# Altium schematic symbol library Schlib_TE_Connectivity.SchLib: 23 symbols
Pins are listed as number, name and electrical type; pins without a type are passive.

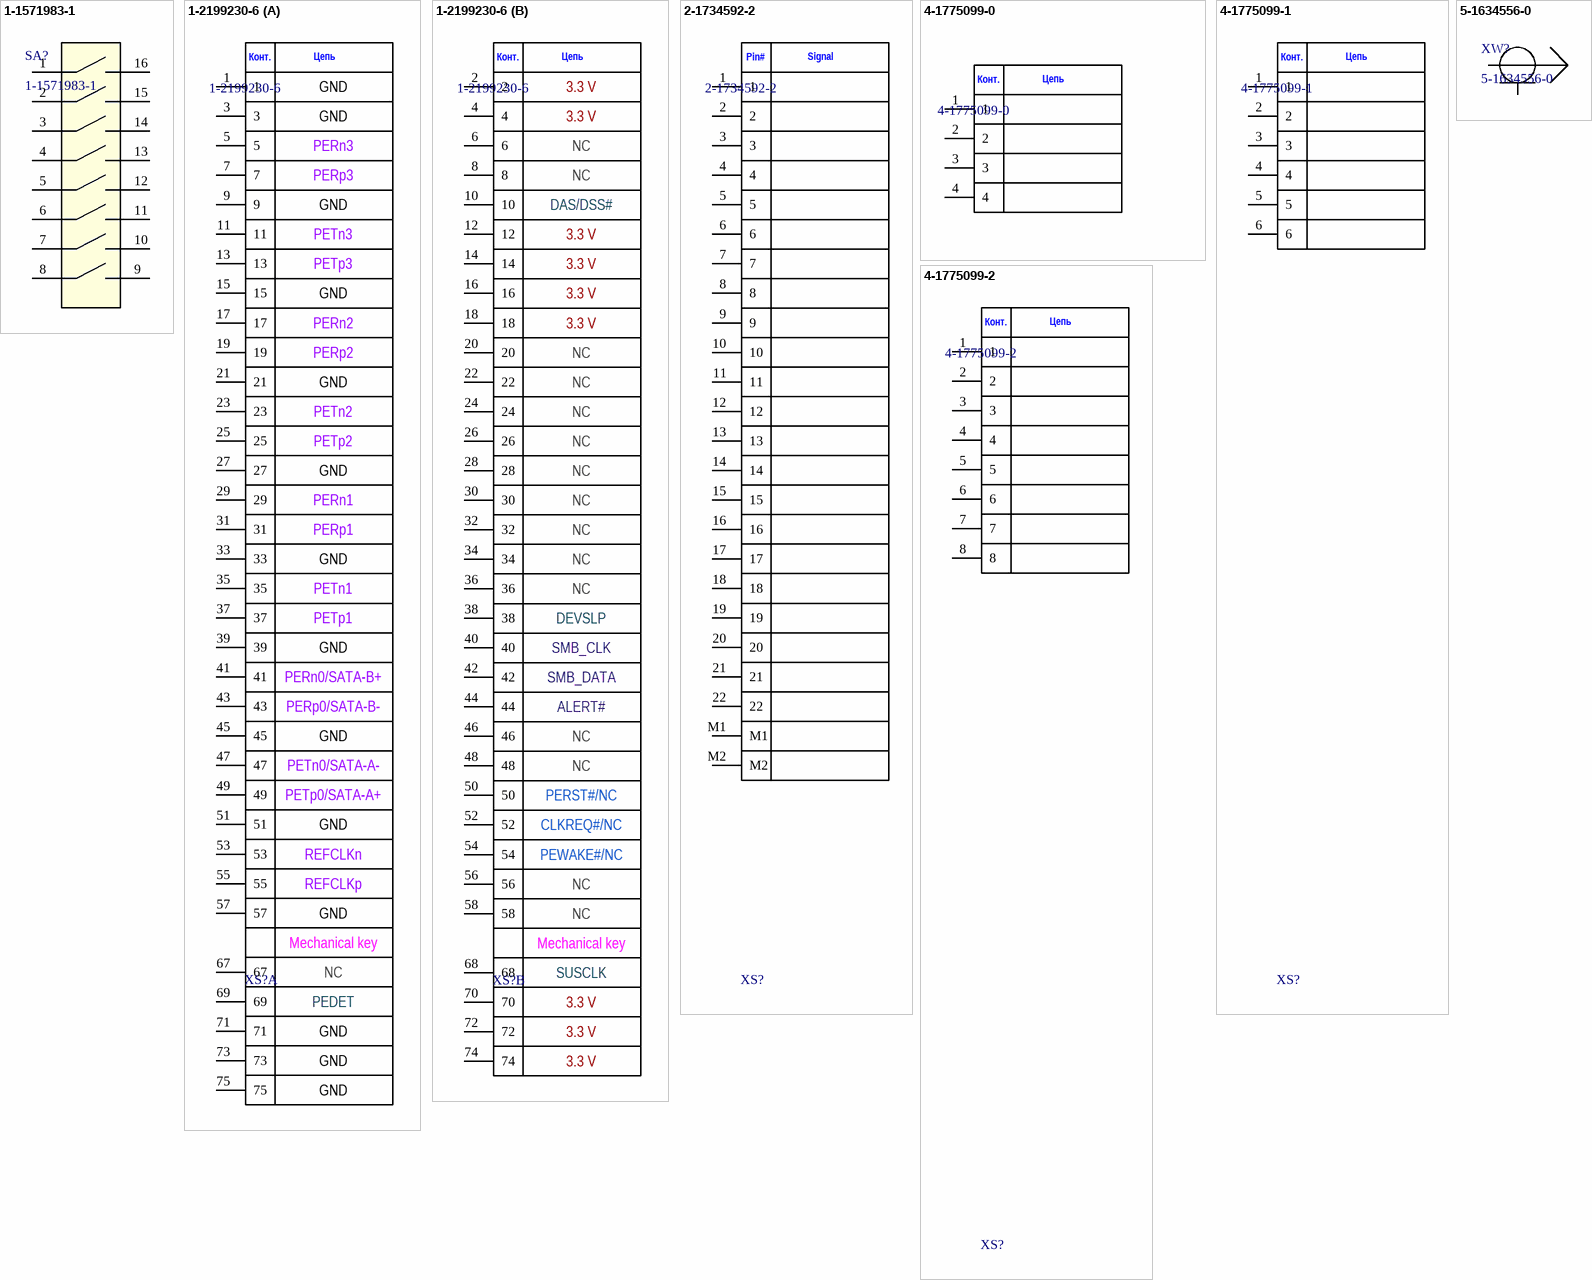
[diagram p0: symbols 1-1571983-1 to 5-1634556-0]

## 1-1571983-1
designator SA?
Switch slide DIP SPST 25MA 24V (Actuator Level - Raised); Manufacturer: TE Connectivity; Poles: 8; Part Number: 1-1571983-1
footprint 1-1571983-1
pins: 1, 2, 3, 4, 5, 6, 7, 8, 9, 10, 11, 12, 13, 14, 15, 16

## 1-2199230-6
designator XS?
M.2 NGFF Connector M-Key; Manufacturer: TE Connectivity; Part Number: 1-2199230-6; Author: Sklyarov
footprint 1-2199230-6(2242) (TE Conn M.2 M Key)
footprint 1-2199230-6(2260) (TE Conn M.2 M Key)
footprint 1-2199230-6(2280) (TE Conn M.2 M Key)
footprint 1-2199230-6(2230) (TE Conn M.2 M Key)
part A pins: 1, 3, 5, 7, 9, 11, 13, 15, 17, 19, 21, 23, 25, 27, 29, 31, 33, 35, 37, 39, 41, 43, 45, 47, 49, 51, 53, 55, 57, 67, 69, 71, 73, 75
part B pins: 2, 4, 6, 8, 10, 12, 14, 16, 18, 20, 22, 24, 26, 28, 30, 32, 34, 36, 38, 40, 42, 44, 46, 48, 50, 52, 54, 56, 58, 68, 70, 72, 74
part A text: Конт.; Цепь; GND; PERn3; PERp3; PETn3; PETp3; PERn2; PERp2; PETn2; PETp2; PERn1; PERp1; PETn1; PETp1; PERn0/SATA-B+; PERp0/SATA-B-; PETn0/SATA-A-; PETp0/SATA-A+; REFCLKn; REFCLKp; Mechanical key; NC; PEDET
part B text: Конт.; Цепь; 3.3 V; NC; DAS/DSS#; DEVSLP; SMB_CLK; SMB_DATA; ALERT#; PERST#/NC; CLKREQ#/NC; PEWAKE#/NC; Mechanical key; SUSCLK

## 2-1734592-2
designator XS?
FPC Connectors, Flex-to-Board, 22 Position, .02 in [.5 mm] Centerline, Zero Insertion Force (ZIF), Right Angle, Surface Mount; Manufacturer: TE Connectivity; Part Number: 2-1734592-2; Author: Sklyarov
footprint 2-1734592-2 (CONN FPC/FFC 22POS .5MM)
pins: 1, 2, 3, 4, 5, 6, 7, 8, 9, 10, 11, 12, 13, 14, 15, 16, 17, 18, 19, 20, 21, 22, M1, M2
text: Pin#; Signal

## 4-1775099-0
designator XS?
ATX Connector, 4 pin; Manufacturer: TE Connectivity; Part Number: 4-1775099-0; Author: Sklyarov
footprint 4-1775099-0
pins: 1, 2, 3, 4
text: Конт.; Цепь

## 4-1775099-1
designator XS?
ATX Connector, 6 pin; Manufacturer: TE Connectivity; Part Number: 4-1775099-1; Author: Sklyarov
footprint 4-1775099-1
pins: 1, 2, 3, 4, 5, 6
text: Конт.; Цепь

## 4-1775099-2
designator XS?
ATX Connector, 8 pin; Manufacturer: TE Connectivity; Part Number: 4-1775099-2; Author: Sklyarov
footprint 4-1775099-2
pins: 1, 2, 3, 4, 5, 6, 7, 8
text: Конт.; Цепь

## 5-1634556-0
designator XW?
BNC Connector; Manufacturer: TE Connectivity; Part Number: 5-1634556-0
footprint 1-1337543-0 (BNC Connector)
pins: 1, 2

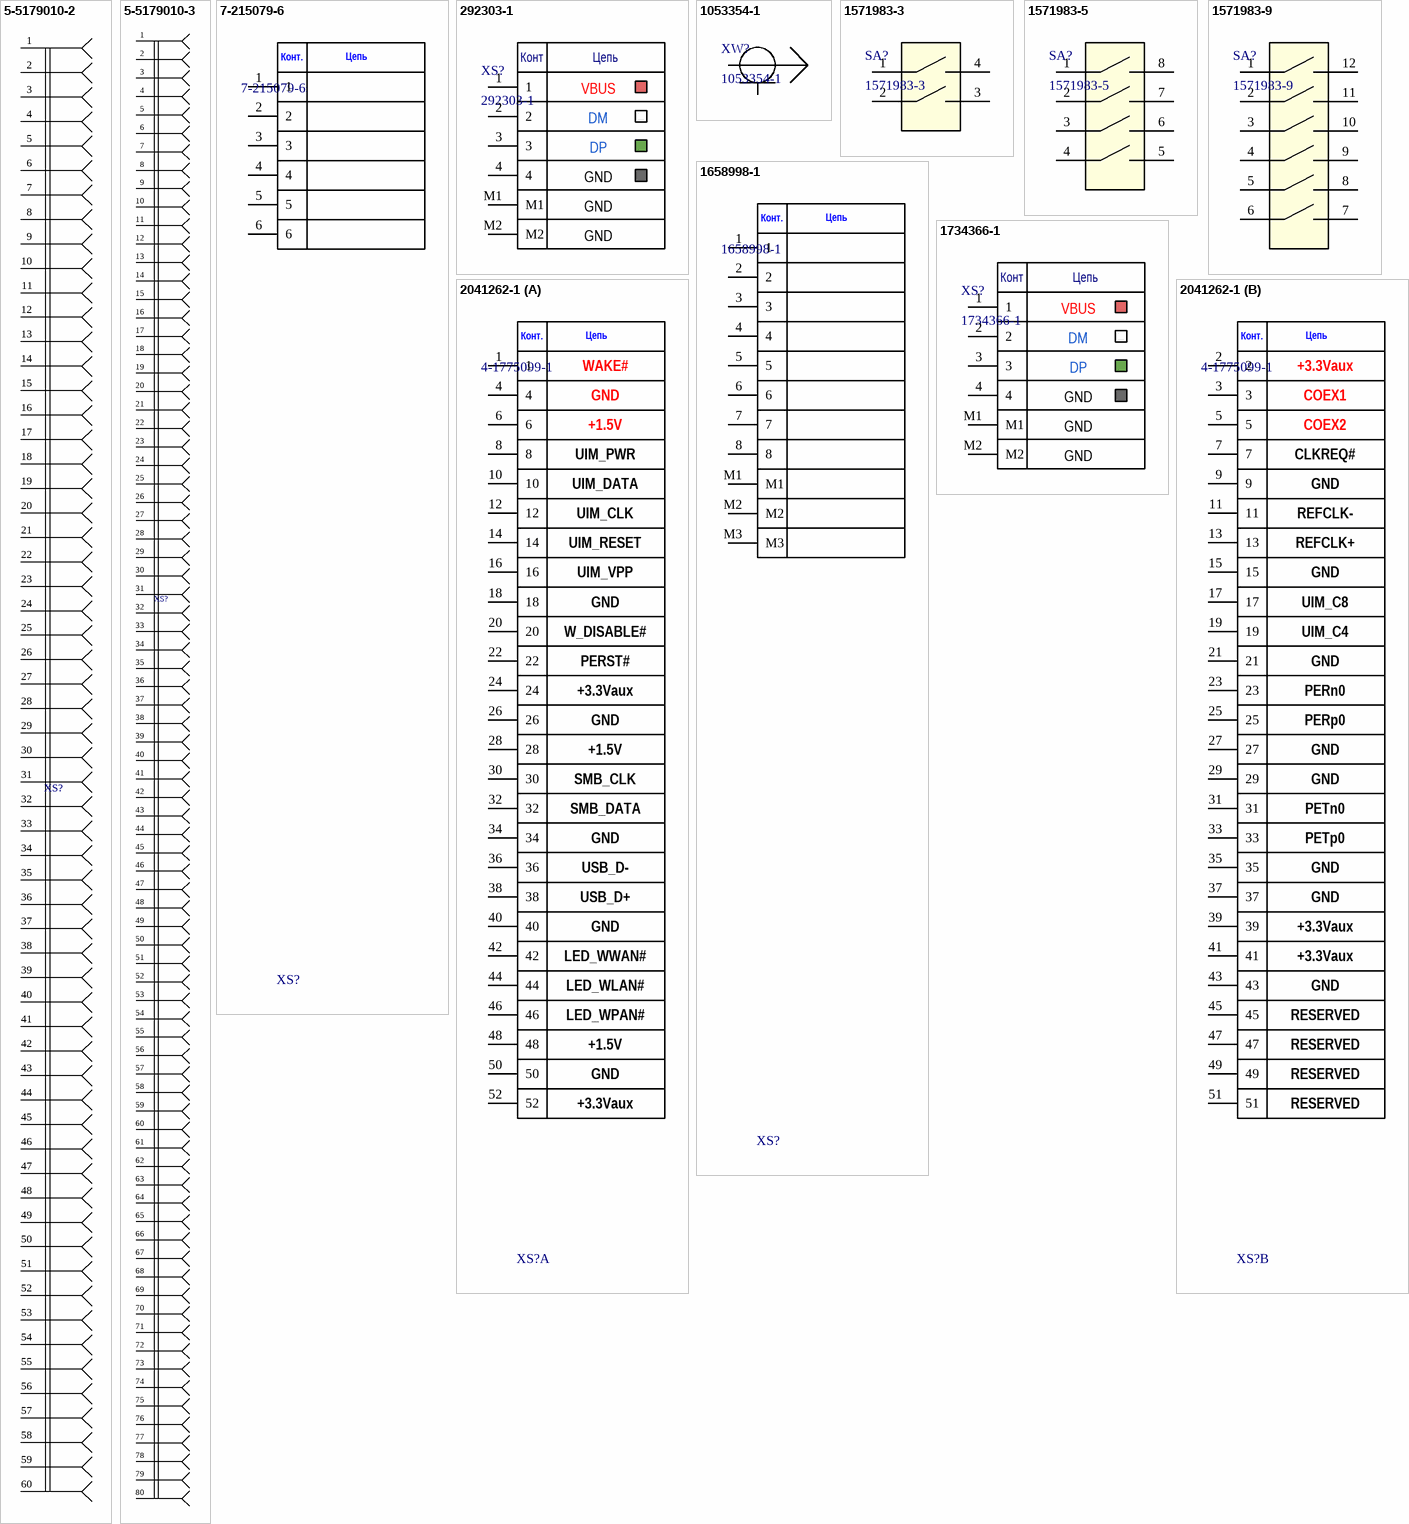
[diagram p1: symbols 5-5179010-2 to 2041262-1]

## 5-5179010-2
designator XS?  (value not drawn)
Connector Receptacle, 60 pin; Manufacturer: TE Connectivity; Part Number: 5-5179010-2; Author: Sklyarov
footprint 5-5179010-2
pins: 1, 2, 3, 4, 5, 6, 7, 8, 9, 10, 11, 12, 13, 14, 15, 16, 17, 18, 19, 20, 21, 22, 23, 24, 25, 26, 27, 28, 29, 30, 31, 32, 33, 34, 35, 36, 37, 38, 39, 40, 41, 42, 43, 44, 45, 46, 47, 48, 49, 50, 51, 52, 53, 54, 55, 56, 57, 58, 59, 60

## 5-5179010-3
designator XS?  (value not drawn)
Connector Receptacle, 80 pin; Manufacturer: TE Connectivity; Part Number: 5-5179010-3; Author: Sklyarov
footprint 5-5179010-3
pins: 1, 2, 3, 4, 5, 6, 7, 8, 9, 10, 11, 12, 13, 14, 15, 16, 17, 18, 19, 20, 21, 22, 23, 24, 25, 26, 27, 28, 29, 30, 31, 32, 33, 34, 35, 36, 37, 38, 39, 40, 41, 42, 43, 44, 45, 46, 47, 48, 49, 50, 51, 52, 53, 54, 55, 56, 57, 58, 59, 60, 61, 62, 63, 64, 65, 66, 67, 68, 69, 70, 71, 72, 73, 74, 75, 76, 77, 78, 79, 80

## 7-215079-6
designator XS?
Micro-MaTch Industrial Connector, 6 pin; Manufacturer: TE Connectivity; Part Number: 7-215079-6; Author: Sklyarov
footprint 7-215079-6
pins: 1, 2, 3, 4, 5, 6
text: Конт.; Цепь

## 292303-1
designator XS?
USB 2.0 Type A Horizontal Receptacle; Manufacturer: Te Connectivity; Part Number: 292303-1
footprint 292303-1 (USB Type A Horizontal)
pins: 1, 2, 3, 4, M1, M2
text: Конт; Цепь; VBUS; DM; DP; GND

## 1053354-1
designator XW?
SMA Connector PC Board Mount / Vertical Jack; Manufacturer: TE Connectivity; Part Number: 1053354-1
footprint 1053354-1
pins: 1, 2

## 1571983-3
designator SA?
Switch slide DIP SPST 25MA 24V (Actuator Level - Raised); Manufacturer: TE Connectivity; Poles: 2; Part Number: 1571983-3
footprint 1571983-3
pins: 1, 2, 3, 4

## 1571983-5
designator SA?
Switch slide DIP SPST 25MA 24V (Actuator Level - Raised); Manufacturer: TE Connectivity; Poles: 4; Part Number: 1571983-5
footprint 1571983-5
pins: 1, 2, 3, 4, 5, 6, 7, 8

## 1571983-9
designator SA?
Switch slide DIP SPST 25MA 24V (Actuator Level - Raised); Manufacturer: TE Connectivity; Poles: 6; Part Number: 1571983-9
footprint 1571983-9
pins: 1, 2, 3, 4, 5, 6, 7, 8, 9, 10, 11, 12

## 1658998-1
designator XS?
Mini DIN, 8 pin; Manufacturer: TE Connectivity; Part Number: 1658998-1; Author: Sklyarov
footprint 1658998-1
pins: 1, 2, 3, 4, 5, 6, 7, 8, M1, M2, M3
text: Конт.; Цепь

## 1734366-1
designator XS?
USB 2.0 Type A Vertical; Manufacturer: Te Connectivity; Part Number: 1734366-1
footprint 1734366-1 (USB Type A Vertical THR)
pins: 1, 2, 3, 4, M1, M2
text: Конт; Цепь; VBUS; DM; DP; GND

## 2041262-1
designator XS?, comment 4-1775099-1
Mini PCIe Card Connector; Manufacturer: TE Connectivity; Part Number: 4-1775099-1; Author: Sklyarov
footprint 2041262-1(HALF CARD) (TE Conn Mini PCIe)
footprint 2041262-1(FULL CARD) (TE Conn Mini PCIe)
part A pins: 1, 4, 6, 8, 10, 12, 14, 16, 18, 20, 22, 24, 26, 28, 30, 32, 34, 36, 38, 40, 42, 44, 46, 48, 50, 52
part B pins: 2, 3, 5, 7, 9, 11, 13, 15, 17, 19, 21, 23, 25, 27, 29, 31, 33, 35, 37, 39, 41, 43, 45, 47, 49, 51
part A text: Конт.; Цепь; WAKE#; GND; +1.5V; UIM_PWR; UIM_DATA; UIM_CLK; UIM_RESET; UIM_VPP; W_DISABLE#; PERST#; +3.3Vaux; SMB_CLK; SMB_DATA; USB_D-; USB_D+; LED_WWAN#; LED_WLAN#; LED_WPAN#
part B text: Конт.; Цепь; +3.3Vaux; COEX1; COEX2; CLKREQ#; GND; REFCLK-; REFCLK+; UIM_C8; UIM_C4; PERn0; PERp0; PETn0; PETp0; RESERVED

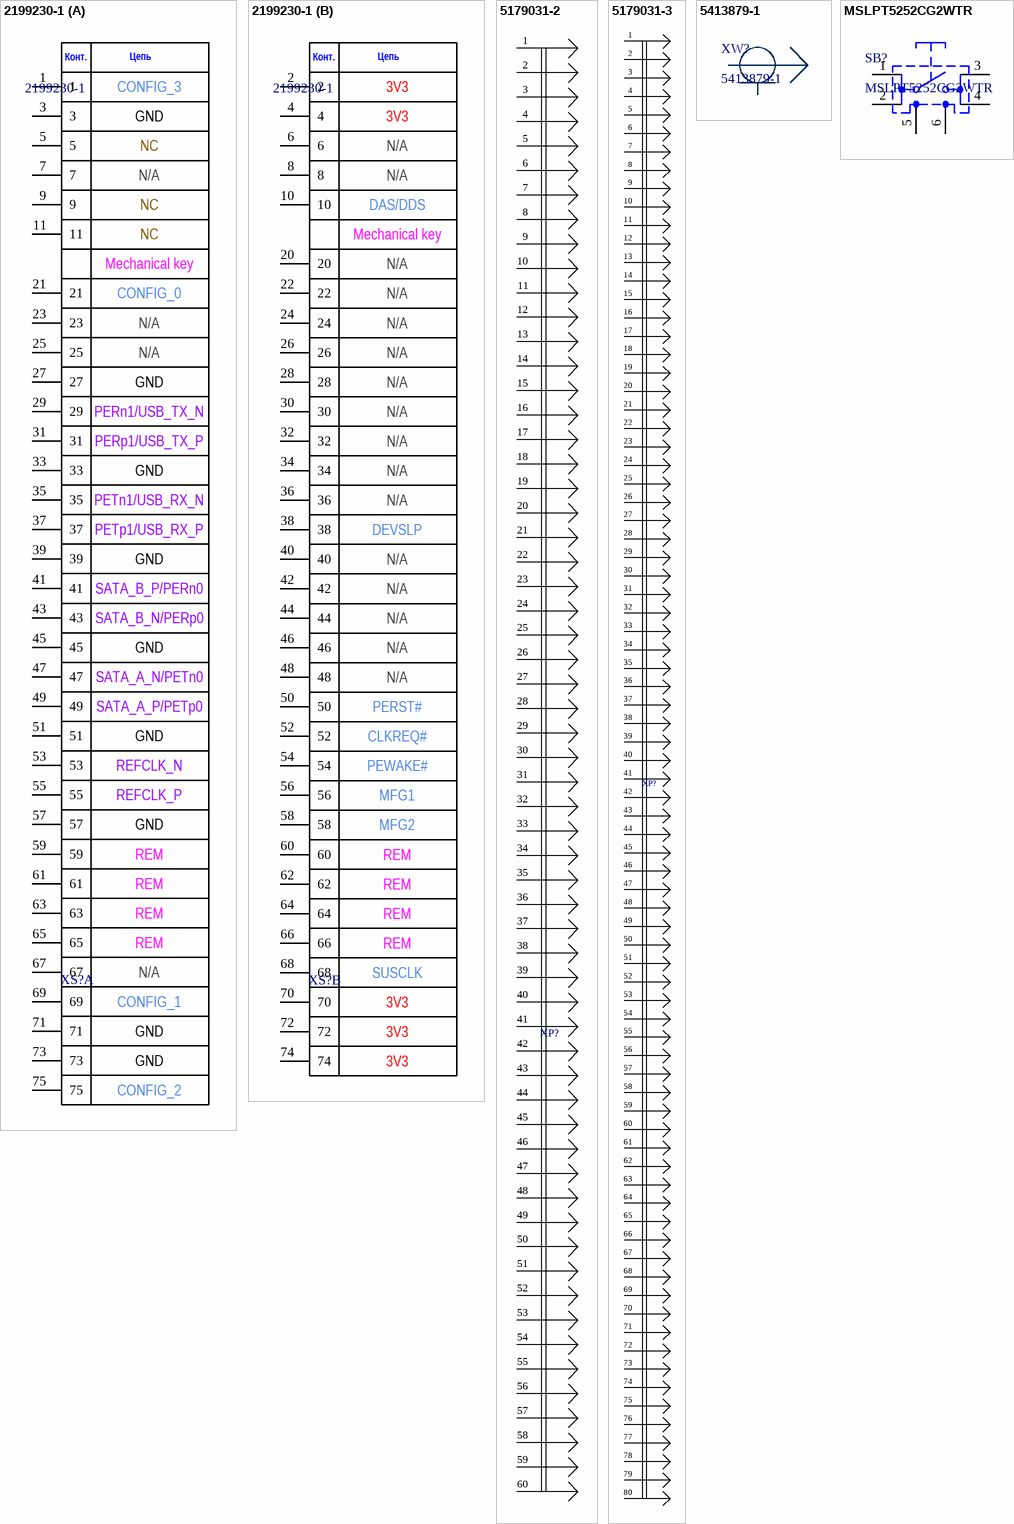
[diagram p2: symbols 2199230-1 to MSLPT5252CG2WTR]

## 2199230-1
designator XS?
M.2 NGFF Connector B-Key; Manufacturer: TE Connectivity; Part Number: 2199230-1; Author: Sklyarov
footprint 2199230-1(2242) (TE Conn M.2 B Key)
footprint 2199230-1(2260) (TE Conn M.2 B Key)
footprint 2199230-1(2280) (TE Conn M.2 B Key)
footprint 2199230-1(2230) (TE Conn M.2 B Key)
part A pins: 1, 3, 5, 7, 9, 11, 21, 23, 25, 27, 29, 31, 33, 35, 37, 39, 41, 43, 45, 47, 49, 51, 53, 55, 57, 59, 61, 63, 65, 67, 69, 71, 73, 75
part B pins: 2, 4, 6, 8, 10, 20, 22, 24, 26, 28, 30, 32, 34, 36, 38, 40, 42, 44, 46, 48, 50, 52, 54, 56, 58, 60, 62, 64, 66, 68, 70, 72, 74
part A text: Конт.; Цепь; CONFIG_3; GND; NC; N/A; Mechanical key; CONFIG_0; PERn1/USB_TX_N; PERp1/USB_TX_P; PETn1/USB_RX_N; PETp1/USB_RX_P; SATA_B_P/PERn0; SATA_B_N/PERp0; SATA_A_N/PETn0; SATA_A_P/PETp0; REFCLK_N; REFCLK_P; REM; CONFIG_1; CONFIG_2
part B text: Конт.; Цепь; 3V3; N/A; DAS/DDS; Mechanical key; DEVSLP; PERST#; CLKREQ#; PEWAKE#; MFG1; MFG2; REM; SUSCLK

## 5179031-2
designator XP?  (value not drawn)
Connector Plug 60pin; Manufacturer: TE Connectivity; Part Number: 5179031-2; Author: Sklyarov
footprint 5179031-2
pins: 1, 2, 3, 4, 5, 6, 7, 8, 9, 10, 11, 12, 13, 14, 15, 16, 17, 18, 19, 20, 21, 22, 23, 24, 25, 26, 27, 28, 29, 30, 31, 32, 33, 34, 35, 36, 37, 38, 39, 40, 41, 42, 43, 44, 45, 46, 47, 48, 49, 50, 51, 52, 53, 54, 55, 56, 57, 58, 59, 60

## 5179031-3
designator XP?  (value not drawn)
Connector Plug 80pin; Manufacturer: TE Connectivity; Part Number: 5179031-3; Author: Sklyarov
footprint 5179031-3
pins: 1, 2, 3, 4, 5, 6, 7, 8, 9, 10, 11, 12, 13, 14, 15, 16, 17, 18, 19, 20, 21, 22, 23, 24, 25, 26, 27, 28, 29, 30, 31, 32, 33, 34, 35, 36, 37, 38, 39, 40, 41, 42, 43, 44, 45, 46, 47, 48, 49, 50, 51, 52, 53, 54, 55, 56, 57, 58, 59, 60, 61, 62, 63, 64, 65, 66, 67, 68, 69, 70, 71, 72, 73, 74, 75, 76, 77, 78, 79, 80

## 5413879-1
designator XW?
BNC Connector; Manufacturer: TE Connectivity; Part Number: 5413879-1
footprint 5413879-1 (BNC Connector)
pins: 1, 2

## MSLPT5252CG2WTR
designator SB?
Low-Profile Tactile Switch MSLPT (Mini Size) 5.2x5.2mm Heght 0.8 to 2.00 mm; Manufacturer: TE Connectivity; Part Number: MSLPT5252CG2WTR
footprint MSLPT5252-CG
pins: 1, 2, 3, 4, 5, 6